# Altium footprint library Diodes.PcbLib: 7 footprints
Each footprint in its own frame and in the unit in brackets; x right, y up, seen from the top. Pads: shape width x height; smd on the part's side, far side on the other; paste and mask are expansions set on the pad; w line width, h text height; cw(c..) or ccw(c..) is an arc to the next point about the centre after c.
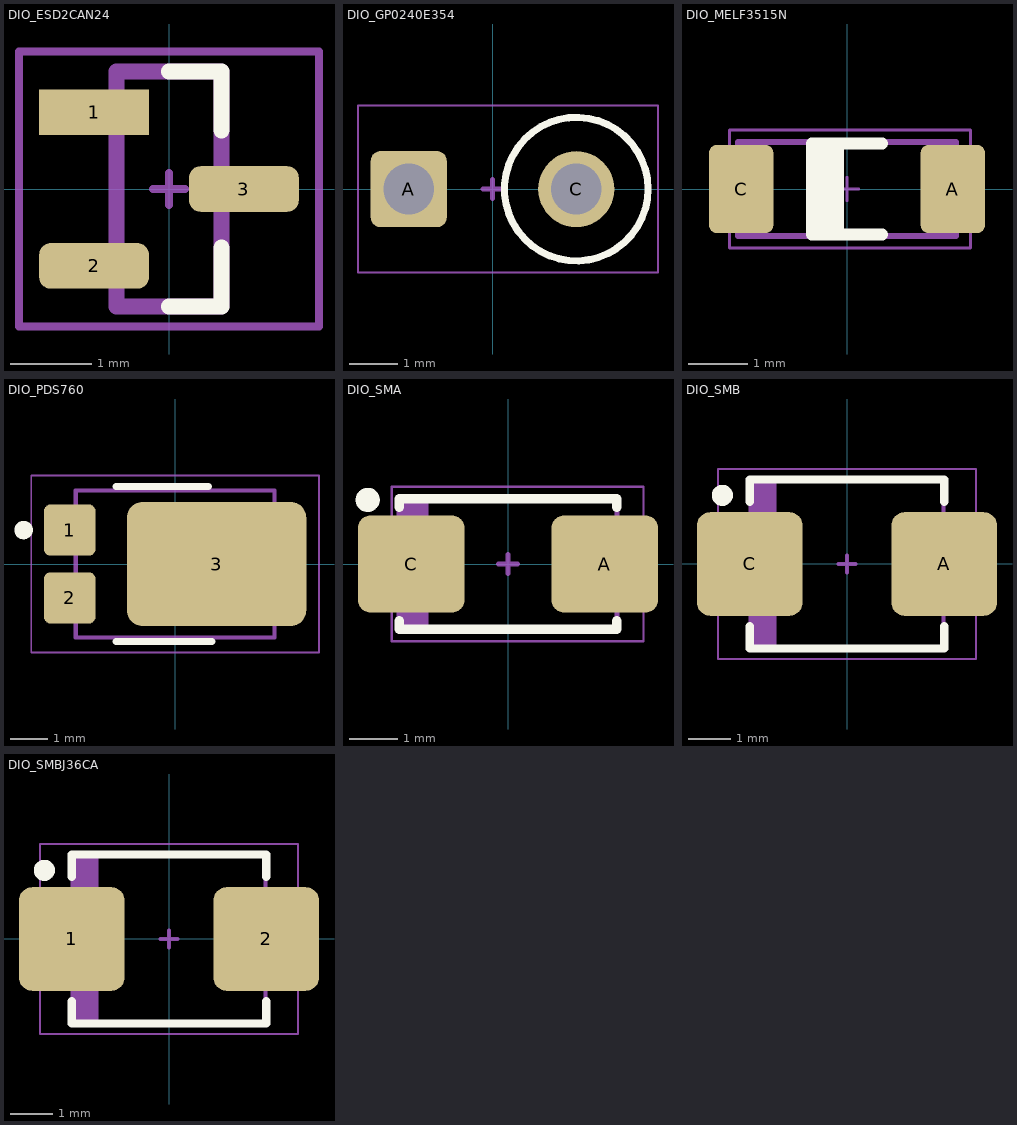
[diagram p0: the footprints below, top view; thin cyan lines are the x and y axes]

## DIO_ESD2CAN24 [mm]
pads (3):
  rect 1.355x0.562 smd paste+0 mask+0: 1(-0.925,0.95)
  rrect50% 1.355x0.562 smd paste+0 mask+0: 2(-0.925,-0.95) 3(0.925,0)
Top Overlay:
  lines w0.2: 0,-1.45 0.65,-1.45 0.65,-0.725 ; 0,1.45 0.65,1.45 0.65,0.725
Top Component Center:
  lines w0.1: -0.2,0 0,0 ; 0,-0.2 0,0 ; 0,0.2 0,0 ; 0.2,0 0,0
Top Assembly:
  lines w0.1: -1.853,-1.7 -1.853,1.7 1.853,1.7 1.853,-1.7 -1.853,-1.7
Top Designator:
  text ".Designator" at -7.618,-0.508 h1.52
Top 3D Body:
  lines w0.2: -0.65,-1.45 -0.65,1.45 0.65,1.45 0.65,-1.45 -0.65,-1.45
Top Courtyard:
  lines w0.05: -1.853,-1.7 -1.853,1.7 1.853,1.7 1.853,-1.7 -1.853,-1.7
3D body "Trans_Nexperia_PMV20ENR_eec.STEP": height 0.25, standoff 0, extent -1.853,-1.7 1.853,1.7

## DIO_GP0240E354 [mm]
pads (2):
  rrect25% 1.59x1.59 hole 1.06: A(-1.75,0)
  round 1.59 hole 1.06: C(1.75,0)
Top Overlay:
  circle w0.15: c1.75,0 r1.5
Top Component Center:
  lines w0.1: -0.2,0 0,0 ; 0,-0.2 0,0 ; 0,0.2 0,0 ; 0.2,0 0,0
Bottom Component Center:
  lines w0.1: -0.2,0 0,0 ; 0,-0.2 0,0 ; 0,0.2 0,0 ; 0.2,0 0,0
Top Designator:
  text ".Designator" at -7.294,-0.506 h1.52
Top Courtyard:
  lines w0.05: -2.81,-1.743 -2.81,1.747 1.75,1.747 3.458,1.747 3.458,-1.743 -2.81,-1.743
3D body "GP02-40-E3_54 v1.step": height 8.13, standoff -2, extent -2.188,-1.355 3.102,1.346

## DIO_MELF3515N [mm] "MELF Diode, 2-Leads, Body 3.50x1.45mm, IPC Medium Density"
height 1.6
pads (2):
  rrect25% 1.1x1.5 smd: A(1.8,0) C(-1.8,0)
Top Overlay:
  rectangle: -0.6,-0.775 -0.05,0.775
  lines w0.2: 0.6,-0.775 -0.6,-0.775 -0.6,0.775 0.6,0.775
Top Component Center:
  lines w0.05: -0.2,0 0,0 ; 0,-0.2 0,0 ; 0,0.2 0,0 ; 0.2,0 0,0
Top Designator:
  text ".Designator" at -7.618,-0.508 h1.52
Top 3D Body:
  lines w0.1: -1.85,-0.8 1.85,-0.8 1.85,0.8 -1.85,0.8 -1.85,-0.8
Top Courtyard:
  lines w0.05: -2,-1 2.1,-1 2.1,1 -2,1 -2,-1
3D body "ZMM.step": height 1.46, standoff -0.01, extent -1.762,-0.73 1.738,0.728

## DIO_PDS760 [mm]
pads (3):
  rrect25% 1.4x1.39 smd: 1(-2.856,0.92) 2(-2.856,-0.92)
  rrect25% 4.86x3.36 smd: 3(1.126,0)
Top Overlay:
  circle w0.25: c-4.106,0.92 r0.125
  lines w0.2: -1.6,-2.1 1,-2.1 ; -1.6,2.1 0.9,2.1
Top Component Center:
  lines w0.1: -0.2,0 0,0 ; 0,-0.2 0,0 ; 0,0.2 0,0 ; 0.2,0 0,0
Top Assembly:
  lines w0.1: -2.7,-2 -2.7,2 2.7,2 2.7,-2 -2.7,-2
Top Designator:
  text ".Designator" at -7.833,-0.508 h1.52
Top 3D Body:
  lines w0.1: -2.688,-1.987 2.688,-1.987 2.688,1.987 -2.688,1.987 -2.688,-1.987
Top Courtyard:
  lines w0.05: -3.9,-2.4 3.9,-2.4 3.9,2.4 -3.9,2.4 -3.9,-2.4
  lines w0.1: -0.5,0 0.5,0 ; 0,-0.5 0,0.5
3D body "Diode_Diodes_Inc_PDS360-13_eec.STEP": height 0.25, standoff 0, extent -3.656,-2.125 3.656,2.125

## DIO_SMA [mm] "Molded Diode, 2-Leads, Body 4.25x2.50mm, IPC Medium Density"
height 2.2
pads (2):
  rrect25% 2.2x2 smd: A(2,0) C(-2,0)
Top Overlay:
  circle w0.25: c-2.9,1.325 r0.125
  lines w0.2: -2.25,-1.175 -2.25,-1.35 2.25,-1.35 2.25,-1.175 ; -2.25,1.175 -2.25,1.35 2.25,1.35 2.25,1.175
Top Component Center:
  lines w0.1: -0.2,0 0,0 ; 0,-0.2 0,0 ; 0,0.2 0,0 ; 0.2,0 0,0
Bottom Component Center:
  text ".Designator" at -7.642,-0.508 h1.52
Top Designator:
  text ".Designator" at -7.642,-0.508 h1.52
Top 3D Body:
  rectangle: -2.25,-1.35 -1.645,1.35
  lines w0.1: -2.25,-1.35 2.25,-1.35 2.25,1.35 -2.25,1.35 -2.25,-1.35
Top Courtyard:
  lines w0.05: -2.4,-1.6 2.8,-1.6 2.8,1.6 0,1.6 -2.4,1.6 -2.4,-1.6
3D body "Diode SMA.stp": height 2.41, standoff 0, extent -2.613,-1.461 2.667,1.459

## DIO_SMB [mm] "Molded Diode, 2-Leads, Body 4.31x3.62mm, IPC Medium Density"
height 2.5
pads (2):
  rrect25% 2.5x2.45 smd: A(2.3,0) C(-2.3,0)
Top Overlay:
  circle w0.25: c-2.95,1.625 r0.125
  lines w0.2: -2.3,-1.475 -2.3,-2 2.3,-2 2.3,-1.475 ; -2.3,1.475 -2.3,2 2.3,2 2.3,1.475
Top Component Center:
  lines w0.1: -0.2,0 0,0 ; 0,-0.2 0,0 ; 0,0.2 0,0 ; 0.2,0 0,0
Top Designator:
  text ".Designator" at -7.618,-0.508 h1.52
Top 3D Body:
  rectangle: -2.285,-1.97 -1.67,1.97
  lines w0.1: -2.285,-1.97 2.285,-1.97 2.285,1.97 -2.285,1.97 -2.285,-1.97
Top Courtyard:
  lines w0.05: -3.05,-2.25 3.05,-2.25 3.05,2.25 -3.05,2.25 -3.05,-2.25
3D body "Diode_SMB.STEP": height 2.45, standoff 0.03, extent -2.75,-1.95 2.75,1.95

## DIO_SMBJ36CA [mm]
pads (2):
  rrect25% 2.5x2.45 smd: 1(-2.3,0) 2(2.3,0)
Top Overlay:
  circle w0.25: c-2.95,1.625 r0.125
  lines w0.2: -2.3,-1.475 -2.3,-2 2.3,-2 2.3,-1.475 ; -2.3,1.475 -2.3,2 2.3,2 2.3,1.475
Top Component Center:
  lines w0.1: -0.2,0 0,0 ; 0,-0.2 0,0 ; 0,0.2 0,0 ; 0.2,0 0,0
Top Designator:
  text ".Designator" at -7.618,-0.508 h1.52
Top 3D Body:
  rectangle: -2.285,-1.97 -1.67,1.97
  lines w0.1: -2.285,-1.97 -2.285,1.97 2.285,1.97 2.285,-1.97 -2.285,-1.97
Top Courtyard:
  lines w0.05: -3.05,-2.25 -3.05,2.25 3.05,2.25 3.05,-2.25 -3.05,-2.25
3D body "Diode_SMB.STEP": height 2.45, standoff 0.03, extent -2.75,-1.95 2.75,1.95